# Altium footprint library CONN_W2B_JST.PcbLib: 168 footprints (part 1 of 11)
Each footprint in its own frame and in the unit in brackets; x right, y up, seen from the top. Pads: shape width x height; smd on the part's side, far side on the other; paste and mask are expansions set on the pad; w line width, h text height; cw(c..) or ccw(c..) is an arc to the next point about the centre after c.
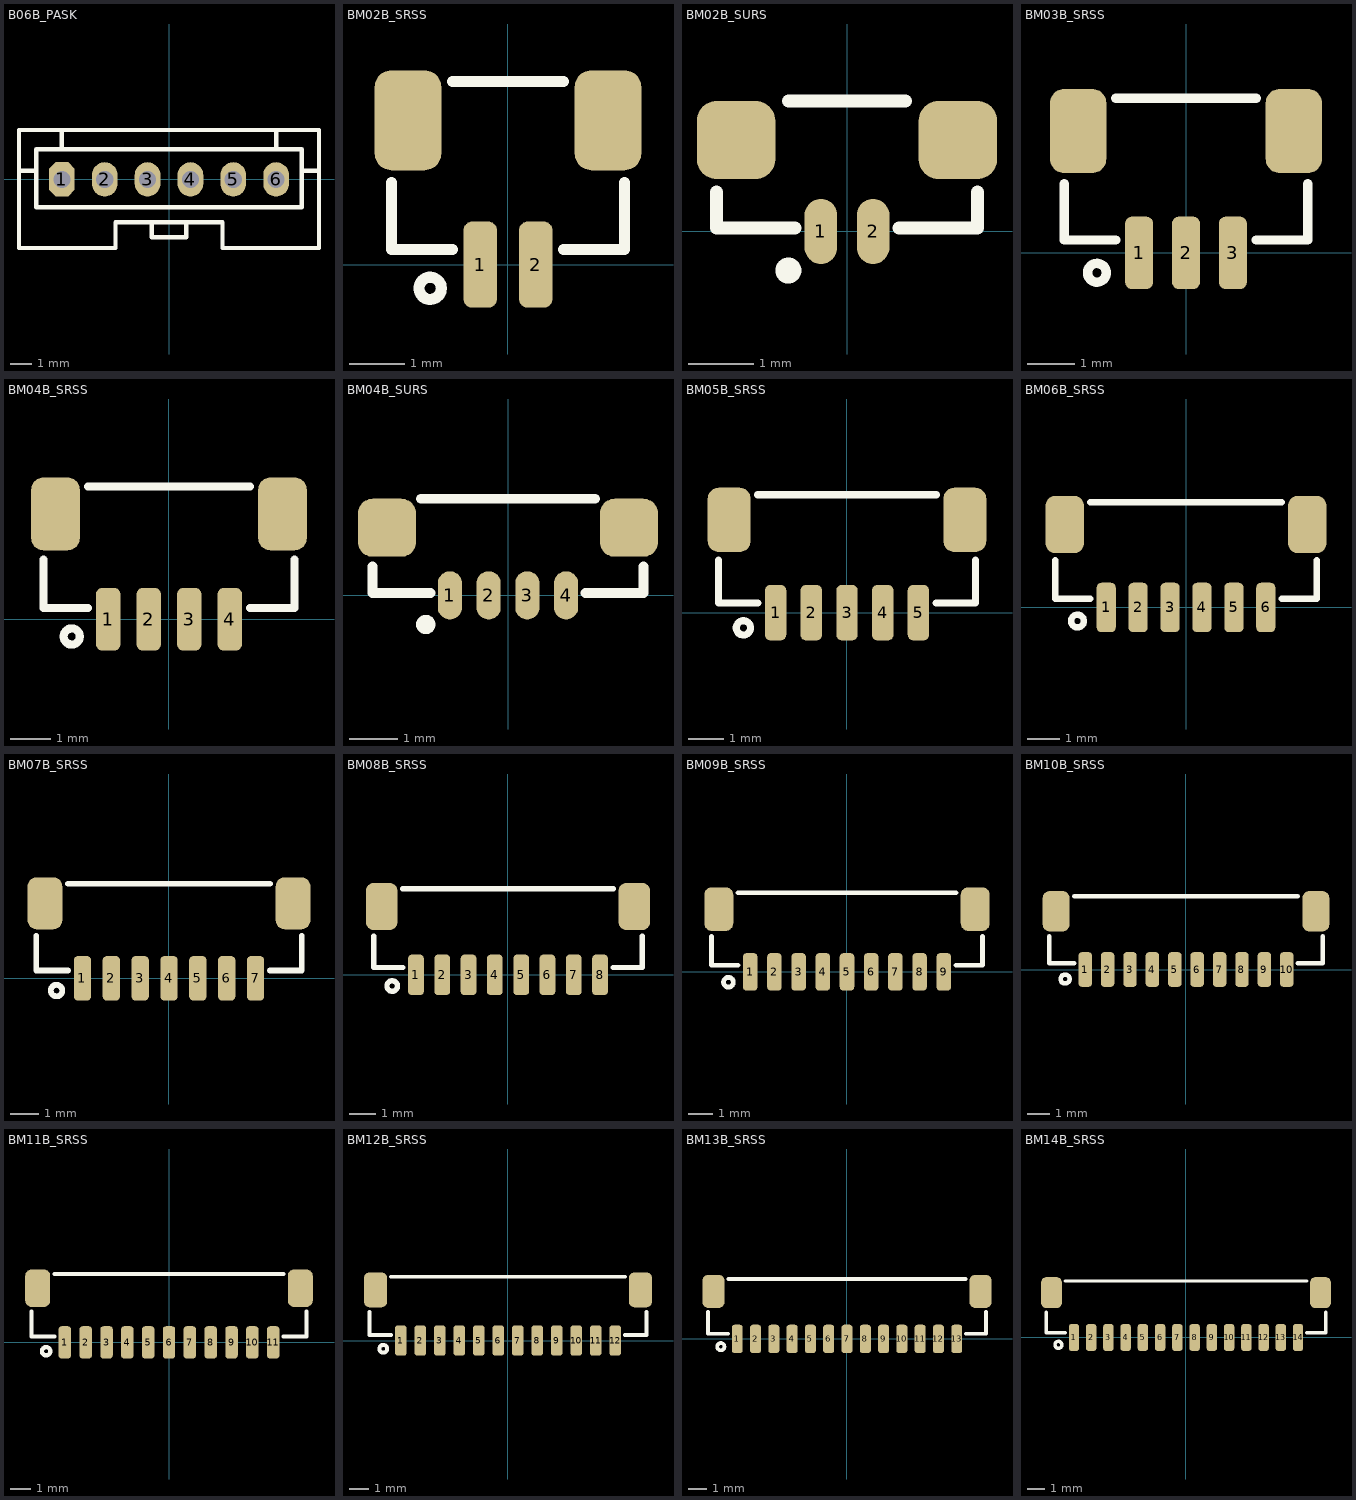
[diagram p0: the footprints below, top view; thin cyan lines are the x and y axes]

## B06B_PASK [mm] "JST PA Series, pitch: 2.0mm, 3.0A/100v, BxxB-PASK"
pads (6):
  oct 1.2x1.6 hole 0.8: 1(-5,0)
  oval 1.2x1.6 hole 0.8: 2(-3,0) 3(-1,0) 4(1,0) 5(3,0) 6(5,0)
Top Overlay:
  lines w0.2: -7,0.4 -6.2,0.4 ; -5,2.3 -5,1.4 ; -0.8,-2 -0.8,-2.7 0.8,-2.7 0.8,-2 ; 5,2.3 5,1.4 ; 7,0.4 6.2,0.4 ; -6.2,0.4 -6.2,-1.3 6.2,-1.3 6.2,0.4 ; -6.2,0.4 -6.2,1.4 -5,1.4 ; -5,1.4 5,1.4 ; 5,1.4 6.2,1.4 6.2,0.4 ; -7,-3.2 -2.5,-3.2 -2.5,-2 2.5,-2 2.5,-3.2 7,-3.2 7,2.3 -7,2.3 -7,-3.2
3D body "B06B-PASK.STEP": height 7.75, standoff -2.95, extent -7,-3.1 7,2.2

## BM02B_SRSS [mm] "SH, Pitch: 1mm, Top Entry, BMxxB-SRSS-TB"
height 6.3
pads (4):
  rrect50% 0.6x1.55 smd mask+0.075: 1(-0.5,0) 2(0.5,0)
  rrect50% 1.2x1.8 smd mask+0.075: ""(-1.8,2.6) ""(1.8,2.6)
Top Overlay:
  circle w0.2: c-1.4,-0.425 r0.2
  lines w0.2: -2.1,1.475 -2.1,0.275 -1,0.275 ; -1,3.3 1,3.3 ; 1,0.275 2.1,0.275 2.1,1.475
3D body "BM02B-SRSS-TB.STEP": height 4.3, standoff 0, extent -2,-0.4 2,3.2

## BM02B_SURS [mm] "eSUR, Pitch: 0.8mm, Top Entry"
height 4
pads (4):
  oval 0.5x1 smd mask+0.075: 1(-0.4,0) 2(0.4,0)
  rrect50% 1.2x1.2 smd: ""(-1.7,1.4) ""(1.7,1.4)
Top Overlay:
  circle w0.2: c-0.9,-0.6 r0.1
  lines w0.2: -2,0.6 -2,0.05 -0.8,0.05 ; -0.9,2 0.9,2 ; 0.8,0.05 2,0.05 2,0.6
3D body "BM02B-SURS-TF.STEP": height 2.75, standoff 0, extent -1.9,-0.3 1.9,1.95

## BM03B_SRSS [mm] "SH, Pitch: 1mm, Top Entry, BMxxB-SRSS-TB"
height 6.3
pads (5):
  rrect50% 0.6x1.55 smd mask+0.075: 1(-1,0) 2(0,0) 3(1,0)
  rrect50% 1.2x1.8 smd mask+0.075: ""(-2.3,2.6) ""(2.3,2.6)
Top Overlay:
  circle w0.2: c-1.9,-0.425 r0.2
  lines w0.2: -2.6,1.475 -2.6,0.275 -1.5,0.275 ; -1.5,3.3 1.5,3.3 ; 1.5,0.275 2.6,0.275 2.6,1.475
3D body "BM03B-SRSS-TB.STEP": height 4.3, standoff 0, extent -2.5,-0.4 2.5,3.2

## BM04B_SRSS [mm] "SH, Pitch: 1mm, Top Entry, BMxxB-SRSS-TB"
height 6.3
pads (6):
  rrect50% 0.6x1.55 smd mask+0.075: 1(-1.5,0) 2(-0.5,0) 3(0.5,0) 4(1.5,0)
  rrect50% 1.2x1.8 smd mask+0.075: ""(-2.8,2.6) ""(2.8,2.6)
Top Overlay:
  circle w0.2: c-2.4,-0.425 r0.2
  lines w0.2: -3.1,1.475 -3.1,0.275 -2,0.275 ; -2,3.275 2,3.275 ; 2,0.275 3.1,0.275 3.1,1.475
3D body "BM04B-SRSS-TB.STEP": height 4.3, standoff 0, extent -3,-0.4 3,3.2

## BM04B_SURS [mm] "eSUR, Pitch: 0.8mm, Top Entry"
height 4
pads (6):
  oval 0.5x1 smd mask+0.075: 1(-1.2,0) 2(-0.4,0) 3(0.4,0) 4(1.2,0)
  rrect50% 1.2x1.2 smd: ""(-2.5,1.4) ""(2.5,1.4)
Top Overlay:
  circle w0.2: c-1.7,-0.6 r0.1
  lines w0.2: -2.8,0.6 -2.8,0.05 -1.6,0.05 ; -1.8,2 1.8,2 ; 1.6,0.05 2.8,0.05 2.8,0.6
3D body "BM04B-SURS-TF.STEP": height 2.75, standoff 0, extent -2.7,-0.3 2.7,1.95

## BM05B_SRSS [mm] "SH, Pitch: 1mm, Top Entry, BMxxB-SRSS-TB"
height 6.3
pads (7):
  rrect50% 0.6x1.55 smd mask+0.075: 1(-2,0) 2(-1,0) 3(0,0) 4(1,0) 5(2,0)
  rrect50% 1.2x1.8 smd mask+0.075: ""(-3.3,2.6) ""(3.3,2.6)
Top Overlay:
  circle w0.2: c-2.9,-0.425 r0.2
  lines w0.2: -3.6,1.475 -3.6,0.275 -2.5,0.275 ; -2.5,3.3 2.5,3.3 ; 2.5,0.275 3.6,0.275 3.6,1.475
3D body "BM05B-SRSS-TB.STEP": height 4.3, standoff 0, extent -3.5,-0.4 3.5,3.2

## BM06B_SRSS [mm] "SH, Pitch: 1mm, Top Entry, BMxxB-SRSS-TB"
height 6.3
pads (8):
  rrect50% 0.6x1.55 smd mask+0.075: 1(-2.5,0) 2(-1.5,0) 3(-0.5,0) 4(0.5,0) 5(1.5,0) 6(2.5,0)
  rrect50% 1.2x1.8 smd mask+0.075: ""(-3.8,2.6) ""(3.8,2.6)
Top Overlay:
  circle w0.2: c-3.4,-0.425 r0.2
  lines w0.2: -4.1,1.475 -4.1,0.275 -3,0.275 ; -3,3.3 3,3.3 ; 3,0.275 4.1,0.275 4.1,1.475
3D body "BM06B-SRSS-TB.STEP": height 4.3, standoff 0, extent -4,-0.417 4,3.183

## BM07B_SRSS [mm] "SH, Pitch: 1mm, Top Entry, BMxxB-SRSS-TB"
height 6.3
pads (9):
  rrect50% 0.6x1.55 smd mask+0.075: 1(-3,0) 2(-2,0) 3(-1,0) 4(0,0) 5(1,0) 6(2,0) 7(3,0)
  rrect50% 1.2x1.8 smd mask+0.075: ""(-4.3,2.6) ""(4.3,2.6)
Top Overlay:
  circle w0.2: c-3.9,-0.425 r0.2
  lines w0.2: -4.6,1.475 -4.6,0.275 -3.5,0.275 ; -3.5,3.275 3.5,3.275 ; 3.5,0.275 4.6,0.275 4.6,1.475
3D body "BM07B-SRSS-TB.STEP": height 4.3, standoff 0, extent -4.5,-0.4 4.5,3.2

## BM08B_SRSS [mm] "SH, Pitch: 1mm, Top Entry, BMxxB-SRSS-TB"
height 6.3
pads (10):
  rrect50% 0.6x1.55 smd mask+0.075: 1(-3.5,0) 2(-2.5,0) 3(-1.5,0) 4(-0.5,0) 5(0.5,0) 6(1.5,0) 7(2.5,0) 8(3.5,0)
  rrect50% 1.2x1.8 smd mask+0.075: ""(-4.8,2.6) ""(4.8,2.6)
Top Overlay:
  circle w0.2: c-4.4,-0.425 r0.2
  lines w0.2: -5.1,1.475 -5.1,0.275 -4,0.275 ; -4,3.275 4,3.275 ; 4,0.275 5.1,0.275 5.1,1.475
3D body "step_temp.STEP": height 4.25, standoff 0, extent -5,-0.417 5,3.183

## BM09B_SRSS [mm] "SH, Pitch: 1mm, Top Entry, BMxxB-SRSS-TB"
height 6.3
pads (11):
  rrect50% 0.6x1.55 smd mask+0.075: 1(-4,0) 2(-3,0) 3(-2,0) 4(-1,0) 5(0,0) 6(1,0) 7(2,0) 8(3,0) 9(4,0)
  rrect50% 1.2x1.8 smd mask+0.075: ""(-5.3,2.6) ""(5.3,2.6)
Top Overlay:
  circle w0.2: c-4.9,-0.425 r0.2
  lines w0.2: -5.6,1.475 -5.6,0.275 -4.5,0.275 ; -4.5,3.275 4.5,3.275 ; 4.5,0.275 5.6,0.275 5.6,1.475
3D body "BM09B-SRSS-TB.STEP": height 4.3, standoff 0, extent -5.5,-0.4 5.5,3.2

## BM10B_SRSS [mm] "SH, Pitch: 1mm, Top Entry, BMxxB-SRSS-TB"
height 6.3
pads (12):
  rrect50% 0.6x1.55 smd mask+0.075: 1(-4.5,0) 2(-3.5,0) 3(-2.5,0) 4(-1.5,0) 5(-0.5,0) 6(0.5,0) 7(1.5,0) 8(2.5,0) 9(3.5,0) 10(4.5,0)
  rrect50% 1.2x1.8 smd mask+0.075: ""(-5.8,2.6) ""(5.8,2.6)
Top Overlay:
  circle w0.2: c-5.4,-0.425 r0.2
  lines w0.2: -6.1,1.475 -6.1,0.275 -5,0.275 ; -5,3.275 5,3.275 ; 5,0.275 6.1,0.275 6.1,1.475
3D body "BM10B-SRSS-TB.STEP": height 4.3, standoff 0, extent -6,-0.4 6,3.2

## BM11B_SRSS [mm] "SH, Pitch: 1mm, Top Entry, BMxxB-SRSS-TB"
height 6.3
pads (13):
  rrect50% 0.6x1.55 smd mask+0.075: 1(-5,0) 2(-4,0) 3(-3,0) 4(-2,0) 5(-1,0) 6(0,0) 7(1,0) 8(2,0) 9(3,0) 10(4,0) 11(5,0)
  rrect50% 1.2x1.8 smd mask+0.075: ""(-6.3,2.6) ""(6.3,2.6)
Top Overlay:
  circle w0.2: c-5.9,-0.425 r0.2
  lines w0.2: -6.6,1.475 -6.6,0.275 -5.5,0.275 ; -5.5,3.275 5.5,3.275 ; 5.5,0.275 6.6,0.275 6.6,1.475
3D body "BM11B-SRSS-TB.STEP": height 4.3, standoff 0, extent -6.5,-0.4 6.5,3.2

## BM12B_SRSS [mm] "SH, Pitch: 1mm, Top Entry, BMxxB-SRSS-TB"
height 6.3
pads (14):
  rrect50% 0.6x1.55 smd mask+0.075: 1(-5.5,0) 2(-4.5,0) 3(-3.5,0) 4(-2.5,0) 5(-1.5,0) 6(-0.5,0) 7(0.5,0) 8(1.5,0) 9(2.5,0) 10(3.5,0) 11(4.5,0) 12(5.5,0)
  rrect50% 1.2x1.8 smd mask+0.075: ""(-6.8,2.6) ""(6.8,2.6)
Top Overlay:
  circle w0.2: c-6.4,-0.425 r0.2
  lines w0.2: -7.1,1.475 -7.1,0.275 -6,0.275 ; -6,3.275 6,3.275 ; 6,0.275 7.1,0.275 7.1,1.475
3D body "BM12B-SRSS-TB.STEP": height 4.3, standoff 0, extent -7,-0.4 7,3.2

## BM13B_SRSS [mm] "SH, Pitch: 1mm, Top Entry, BMxxB-SRSS-TB"
height 6.3
pads (15):
  rrect50% 0.6x1.55 smd mask+0.075: 1(-6,0) 2(-5,0) 3(-4,0) 4(-3,0) 5(-2,0) 6(-1,0) 7(0,0) 8(1,0) 9(2,0) 10(3,0) 11(4,0) 12(5,0) 13(6,0)
  rrect50% 1.2x1.8 smd mask+0.075: ""(-7.3,2.6) ""(7.3,2.6)
Top Overlay:
  circle w0.2: c-6.9,-0.425 r0.2
  lines w0.2: -7.6,1.475 -7.6,0.275 -6.5,0.275 ; -6.5,3.275 6.5,3.275 ; 6.5,0.275 7.6,0.275 7.6,1.475
3D body "BM13B-SRSS-TB.STEP": height 4.3, standoff 0, extent -7.5,-0.4 7.5,3.2

## BM14B_SRSS [mm] "SH, Pitch: 1mm, Top Entry, BMxxB-SRSS-TB"
height 6.3
pads (16):
  rrect50% 0.6x1.55 smd mask+0.075: 1(-6.5,0) 2(-5.5,0) 3(-4.5,0) 4(-3.5,0) 5(-2.5,0) 6(-1.5,0) 7(-0.5,0) 8(0.5,0) 9(1.5,0) 10(2.5,0) 11(3.5,0) 12(4.5,0) 13(5.5,0) 14(6.5,0)
  rrect50% 1.2x1.8 smd mask+0.075: ""(-7.8,2.6) ""(7.8,2.6)
Top Overlay:
  circle w0.2: c-7.4,-0.425 r0.2
  lines w0.2: -8.1,1.475 -8.1,0.275 -7,0.275 ; -7,3.275 7,3.275 ; 7,0.275 8.1,0.275 8.1,1.475
3D body "BM14B-SRSS-TB.STEP": height 4.3, standoff 0, extent -8,-0.4 8,3.2